# Altium schematic symbol library arm.SchLib: 7 symbols
Pins are listed as number, name and electrical type; pins without a type are passive.

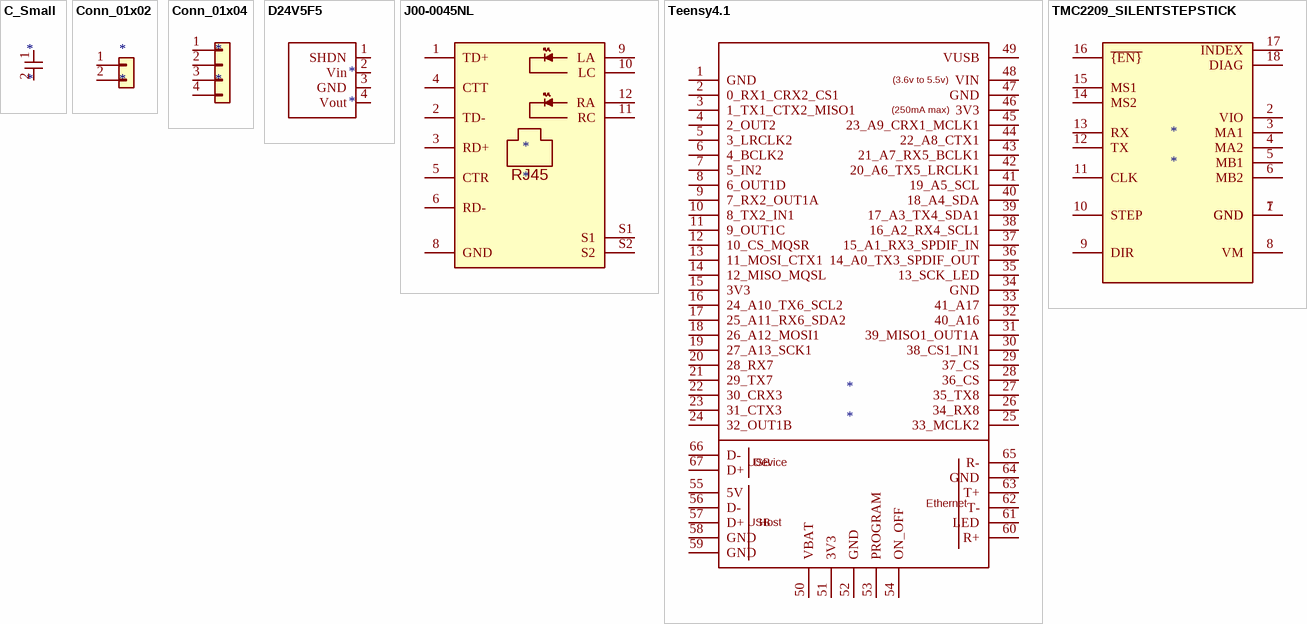
[diagram p0: symbols C_Small to TMC2209_SILENTSTEPSTICK]

## C_Small
designator *
pins: 1, 2

## Conn_01x02
designator *
pins: 1 Pin_1, 2 Pin_2

## Conn_01x04
designator *
pins: 1 Pin_1, 2 Pin_2, 3 Pin_3, 4 Pin_4

## D24V5F5
designator *
pins: 1 SHDN, 2 Vin, 3 GND, 4 Vout

## J00-0045NL
designator *
pins: 1 TD+, 2 TD-, 3 RD+, 4 CTT, 5 CTR, 6 RD-, 8 GND, 9 LA, 10 LC, 11 RC, 12 RA, S1, S2
text: RJ45

## Teensy4.1
designator *
pins: 1 GND, 2 0_RX1_CRX2_CS1, 3 1_TX1_CTX2_MISO1, 4 2_OUT2, 5 3_LRCLK2, 6 4_BCLK2, 7 5_IN2, 8 6_OUT1D, 9 7_RX2_OUT1A, 10 8_TX2_IN1, 11 9_OUT1C, 12 10_CS_MQSR, 13 11_MOSI_CTX1, 14 12_MISO_MQSL, 15 3V3, 16 24_A10_TX6_SCL2, 17 25_A11_RX6_SDA2, 18 26_A12_MOSI1, 19 27_A13_SCK1, 20 28_RX7, 21 29_TX7, 22 30_CRX3, 23 31_CTX3, 24 32_OUT1B, 25 33_MCLK2, 26 34_RX8, 27 35_TX8, 28 36_CS, 29 37_CS, 30 38_CS1_IN1, 31 39_MISO1_OUT1A, 32 40_A16, 33 41_A17, 34 GND, 35 13_SCK_LED, 36 14_A0_TX3_SPDIF_OUT, 37 15_A1_RX3_SPDIF_IN, 38 16_A2_RX4_SCL1, 39 17_A3_TX4_SDA1, 40 18_A4_SDA, 41 19_A5_SCL, 42 20_A6_TX5_LRCLK1, 43 21_A7_RX5_BCLK1, 44 22_A8_CTX1, 45 23_A9_CRX1_MCLK1, 46 3V3, 47 GND, 48 VIN, 49 VUSB, 50 VBAT, 51 3V3, 52 GND, 53 PROGRAM, 54 ON_OFF, 55 5V, 56 D-, 57 D+, 58 GND, 59 GND, 60 R+, 61 LED, 62 T-, 63 T+, 64 GND, 65 R-, 66 D-, 67 D+
text: (3.6v to 5.5v); (250mA max); USB; Device; Ethernet; Host

## TMC2209_SILENTSTEPSTICK
designator *
pins: 1 GND, 2 VIO, 3 MA1, 4 MA2, 5 MB1, 6 MB2, 7 GND, 8 VM, 9 DIR, 10 STEP, 11 CLK, 12 TX, 13 RX, 14 MS2, 15 MS1, 16 ~{{EN}}, 17 INDEX, 18 DIAG